# EAGLE library part OLIMEX_IC_MP1482 (library A13-OLinuXino_WIFI_Rev_G)
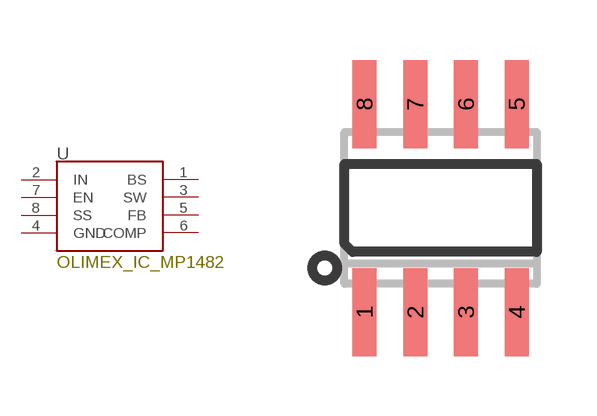
[diagram p11: symbol with the pads of OLIMEX_IC_SOIC8; footprint OLIMEX_IC_SOIC8]

Designator prefix U

## OLIMEX_IC_MP1482  [OLIMEX_IC_SOIC8]
1  BS
2  IN
3  SW
4  GND
5  FB
6  COMP
7  EN
8  SS

## Footprint OLIMEX_IC_SOIC8 (pad centres in mm)
Small Outline IC
smd 0.6 x 2.2: 1 -1.905,-2.6; 2 -0.635,-2.6; 3 0.635,-2.6; 4 1.905,-2.6; 5 1.905,2.6; 6 0.635,2.6; 7 -0.635,2.6; 8 -1.905,2.6